# Altium footprint library Sources.pcblib: 17 footprints (part 1 of 2)
Each footprint in its own frame and in the unit in brackets; x right, y up, seen from the top. Pads: shape width x height; smd on the part's side, far side on the other; paste and mask are expansions set on the pad; w line width, h text height; cw(c..) or ccw(c..) is an arc to the next point about the centre after c.
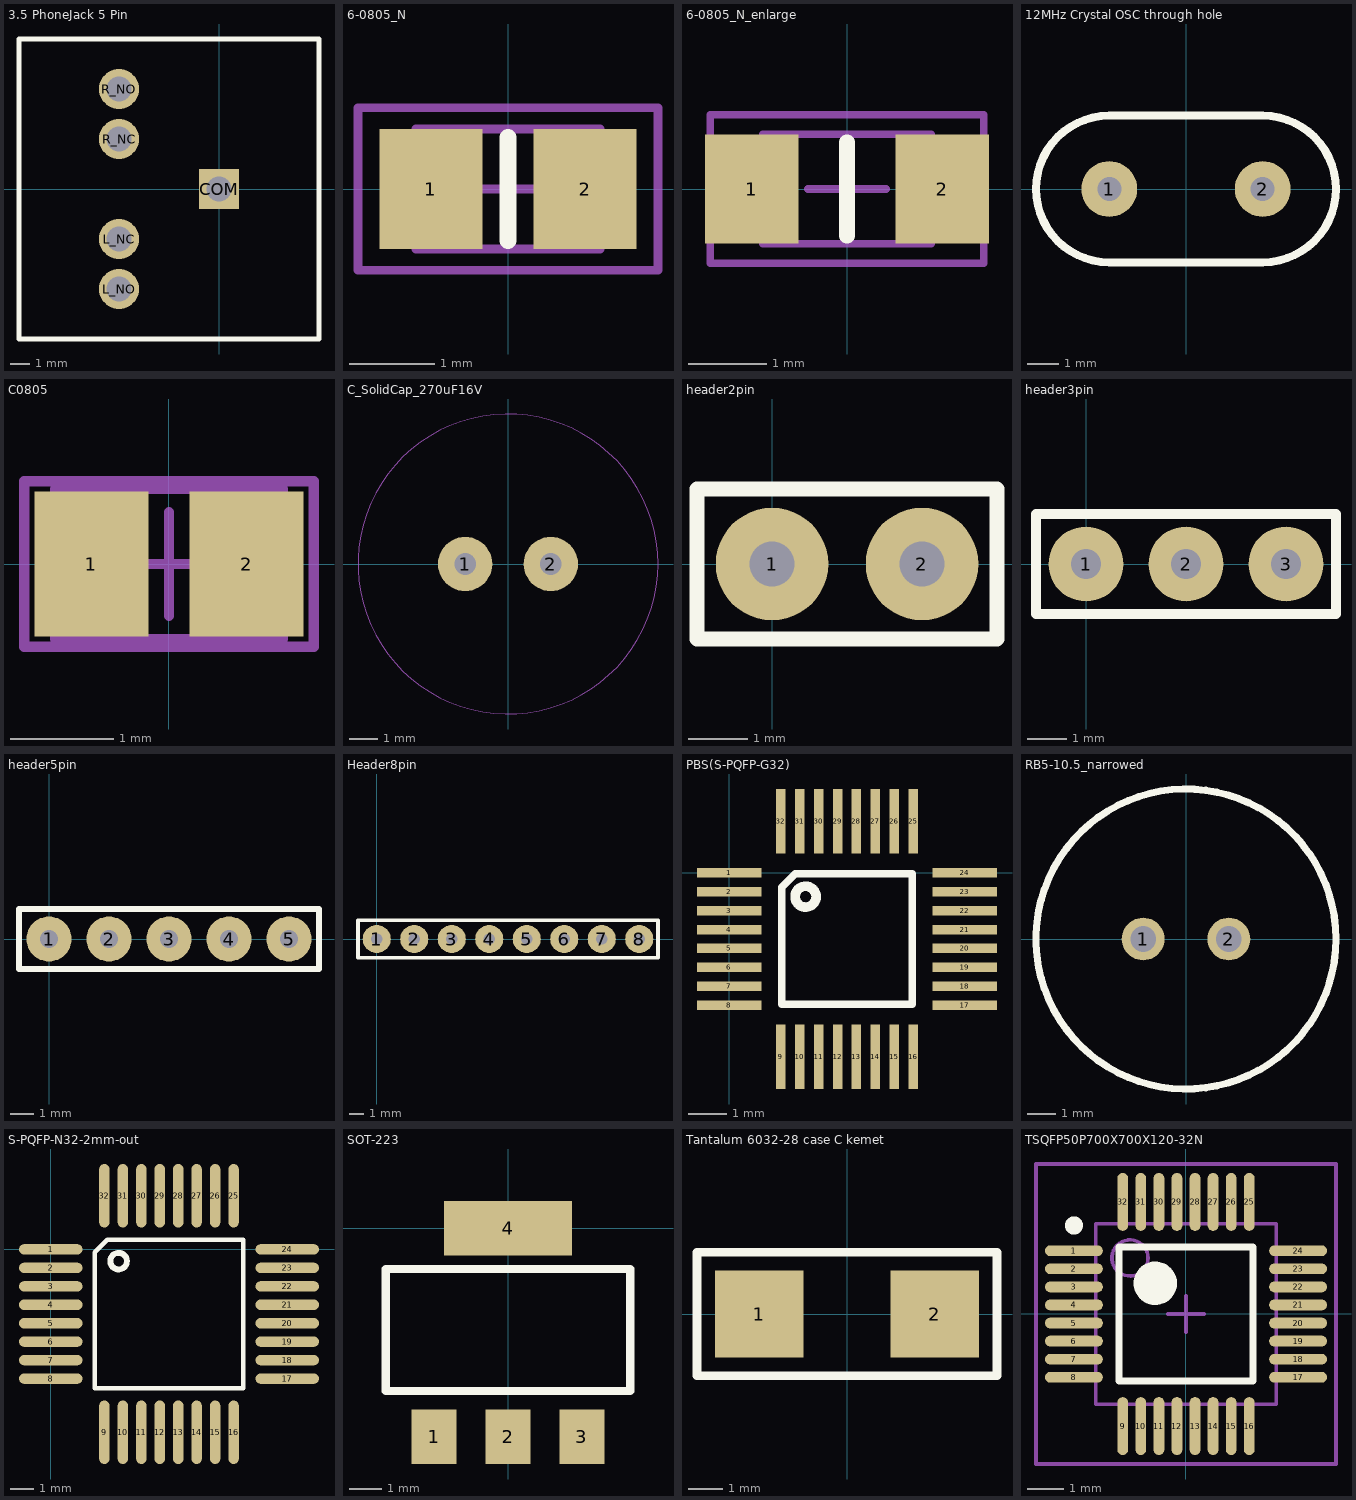
[diagram p0: the footprints below, top view; thin cyan lines are the x and y axes]

## 3.5 PhoneJack 5 Pin [mil] "3.5 PhoneJack 5 Pin"
height 47.24
pads (5):
  rect 80x80 hole 50: COM(0,0)
  round 80 hole 50: L_NC(-200,-100) L_NO(-200,-200) R_NC(-200,100) R_NO(-200,200)
Top Overlay:
  lines w10: -400,-300 200,-300 200,300 -400,300 -400,-300

## 6-0805_N [mm] "Chip Resistor, Body 2.0x1.2mm, IPC Medium Density"
height 0.7
pads (2):
  rect 1.2x1.4 smd: 1(-0.9,0) 2(0.9,0)
Top Overlay:
  lines w0.2: 0,-0.6 0,0.6
Mechanical 13:
  lines w0.1: -1.075,-0.7 1.075,-0.7 1.075,0.7 -1.075,0.7 -1.075,-0.7
Mechanical 15:
  lines w0.1: -0.5,0 0.5,0 ; 0,-0.5 0,0.5 ; -1.75,-0.95 1.75,-0.95 1.75,0.95 -1.75,0.95 -1.75,-0.95
3D body: height 0.7, standoff 0, extent -1.075,-0.7 1.075,0.7

## 6-0805_N_enlarge [mm] "Chip Resistor, Body 2.0x1.2mm, IPC Medium Density"
height 0.7
pads (2):
  rect 1.2x1.4 smd: 1(-1.219,0) 2(1.219,0)
Top Overlay:
  lines w0.2: 0,-0.6 0,0.6
Mechanical 13:
  lines w0.1: -1.075,-0.7 1.075,-0.7 1.075,0.7 -1.075,0.7 -1.075,-0.7
Mechanical 15:
  lines w0.1: -0.5,0 0.5,0 ; 0,-0.5 0,0.5 ; -1.75,-0.95 1.75,-0.95 1.75,0.95 -1.75,0.95 -1.75,-0.95
3D body: height 0.7, standoff 0, extent -1.075,-0.7 1.075,0.7

## 12MHz Crystal OSC through hole [mil]
height 47.24
pads (2):
  round 70 hole 30: 1(-96.06,0) 2(96.06,0)
Top Overlay:
  lines w10: -96.06,-91.73 cw(c-96.06,0) -96.06,91.73 96.06,91.73 cw(c96.06,0) 96.06,-91.73 -96.06,-91.73

## C0805 [mm] "Chip Capacitor, Body 2.0x1.3mm, IPC High Density"
height 1.4
pads (2):
  rect 1.1x1.4 smd: 1(-0.75,0) 2(0.75,0)
Mechanical 13:
  lines w0.1: -1.1,-0.725 1.1,-0.725 1.1,0.725 -1.1,0.725 -1.1,-0.725
Mechanical 15:
  lines w0.1: -0.5,0 0.5,0 ; 0,-0.5 0,0.5 ; -1.4,-0.8 1.4,-0.8 1.4,0.8 -1.4,0.8 -1.4,-0.8
3D body: height 1.4, standoff 0, extent -1.1,-0.725 1.1,0.725

## C_SolidCap_270uF16V [mm]
pads (2):
  round 1.905 hole 0.762: 1(-1.5,0) 2(1.5,0)
Mechanical 1:
  circle w0.02: c0,0 r5.25

## header2pin [mil]
pads (2):
  round 75 hole 30: 1(0,0) 2(100,0)
Top Overlay:
  lines w10: -50,-50 -50,50 150,50 150,-50 -50,-50

## header3pin [mil]
pads (3):
  round 75 hole 30: 1(0,0) 2(100,0) 3(200,0)
Top Overlay:
  lines w10: -50,-50 250,-50 250,50 -50,50 -50,-50

## header5pin [mil]
pads (5):
  round 75 hole 30: 1(0,0) 2(100,0) 3(200,0) 4(300,0) 5(400,0)
Top Overlay:
  lines w10: -50,-50 450,-50 450,50 -50,50 -50,-50

## Header8pin [mil]
pads (8):
  round 75 hole 30: 1(0,0) 2(100,0) 3(200,0) 4(300,0) 5(400,0) 6(500,0) 7(600,0) 8(700,0)
Top Overlay:
  lines w10: -50,-50 -50,50 750,50 750,-50 -50,-50

## PBS(S-PQFP-G32) [mm]
pads (32):
  rect 1.7x0.25 smd: 1(0,0) 2(0,-0.5) 3(0,-1) 4(0,-1.5) 5(0,-2) 6(0,-2.5) 7(0,-3) 8(0,-3.5) 17(6.2,-3.5) 18(6.2,-3) 19(6.2,-2.5) 20(6.2,-2) 21(6.2,-1.5) 22(6.2,-1) 23(6.2,-0.5) 24(6.2,0)
  rect 0.25x1.7 smd: 9(1.35,-4.85) 10(1.85,-4.85) 11(2.35,-4.85) 12(2.85,-4.85) 13(3.35,-4.85) 14(3.85,-4.85) 15(4.35,-4.85) 16(4.85,-4.85) 25(4.85,1.35) 26(4.35,1.35) 27(3.85,1.35) 28(3.35,1.35) 29(2.85,1.35) 30(2.35,1.35) 31(1.85,1.35) 32(1.35,1.35)
Top Overlay:
  circle w0.254: c2.01,-0.635 r0.276
  lines w0.2: 1.385,-3.465 1.385,-0.393 1.743,-0.035 4.815,-0.035 4.815,-3.465 1.385,-3.465

## RB5-10.5_narrowed [mm] "Capacitor (Radial); 2 Leads"
height 1.2
pads (2):
  round 1.5 hole 0.9: 1(-1.5,0) 2(1.5,0)
Top Overlay:
  circle w0.25: c0,0 r5.25
Mechanical 1:
  circle w0.02: c0,0 r5.25

## S-PQFP-N32-2mm-out [mm]
height 1.2
pads (32):
  oval 2.75x0.45 smd: 1(0,0) 2(0,-0.8) 3(0,-1.6) 4(0,-2.4) 5(0,-3.2) 6(0,-4) 7(0,-4.8) 8(0,-5.6) 17(10.25,-5.6) 18(10.25,-4.8) 19(10.25,-4) 20(10.25,-3.2) 21(10.25,-2.4) 22(10.25,-1.6) 23(10.25,-0.8) 24(10.25,0)
  oval 0.45x2.75 smd: 9(2.325,-7.925) 10(3.125,-7.925) 11(3.925,-7.925) 12(4.725,-7.925) 13(5.525,-7.925) 14(6.325,-7.925) 15(7.125,-7.925) 16(7.925,-7.925) 25(7.925,2.325) 26(7.125,2.325) 27(6.325,2.325) 28(5.525,2.325) 29(4.725,2.325) 30(3.925,2.325) 31(3.125,2.325) 32(2.325,2.325)
Top Overlay:
  circle w0.254: c2.943,-0.508 r0.359
  lines w0.2: 1.91,-6.015 8.34,-6.015 8.34,0.415 2.447,0.415 1.91,-0.122 1.91,-6.015

## SOT-223 [mm]
pads (4):
  rect 1.4x1.7 smd: 1(-2.3,-6.5) 2(0,-6.5) 3(2.3,-6.5)
  rect 4x1.7 smd: 4(0,0)
Top Overlay:
  lines w0.254: -3.81,-5.08 -3.81,-1.27 3.81,-1.27 3.81,-5.08 -3.81,-5.08

## Tantalum 6032-28 case C kemet [mm]
height 1.2
pads (2):
  rect 2.55x2.5 smd: 1(-2.525,0) 2(2.525,0)
Top Overlay:
  lines w0.254: -4.318,-1.778 4.318,-1.778 4.318,1.778 -4.318,1.778 -4.318,-1.778

## TSQFP50P700X700X120-32N [mm] "TSQFP, 32-Leads, Body 7.1x7.1mm (max), Pitch 0.50mm, IPC Medium Density"
height 1.2
pads (32):
  oval 1.6x0.3 smd: 1(-3.1,1.75) 2(-3.1,1.25) 3(-3.1,0.75) 4(-3.1,0.25) 5(-3.1,-0.25) 6(-3.1,-0.75) 7(-3.1,-1.25) 8(-3.1,-1.75) 17(3.1,-1.75) 18(3.1,-1.25) 19(3.1,-0.75) 20(3.1,-0.25) 21(3.1,0.25) 22(3.1,0.75) 23(3.1,1.25) 24(3.1,1.75)
  oval 0.3x1.6 smd: 9(-1.75,-3.1) 10(-1.25,-3.1) 11(-0.75,-3.1) 12(-0.25,-3.1) 13(0.25,-3.1) 14(0.75,-3.1) 15(1.25,-3.1) 16(1.75,-3.1) 25(1.75,3.1) 26(1.25,3.1) 27(0.75,3.1) 28(0.25,3.1) 29(-0.25,3.1) 30(-0.75,3.1) 31(-1.25,3.1) 32(-1.75,3.1)
Top Overlay:
  circle w0.6: c-0.85,0.85 r0.3
  circle w0.25: c-3.1,2.45 r0.125
  lines w0.2: -1.85,-1.85 1.85,-1.85 1.85,1.85 -1.85,1.85 -1.85,-1.85
Mechanical 13:
  circle w0.1: c-1.55,1.55 r0.5
  lines w0.1: -2.5,-2.5 2.5,-2.5 2.5,2.5 -2.5,2.5 -2.5,-2.5
Mechanical 15:
  lines w0.1: -0.5,0 0.5,0 ; 0,-0.5 0,0.5 ; -4.15,-4.15 4.15,-4.15 4.15,4.15 -4.15,4.15 -4.15,-4.15
3D body: height 1.2, standoff 0.05, extent -2.5,-2.5 2.5,2.5